# EAGLE library part PWR_SUPV_TPS3890XX (library !GPLIB_ACTIVE)
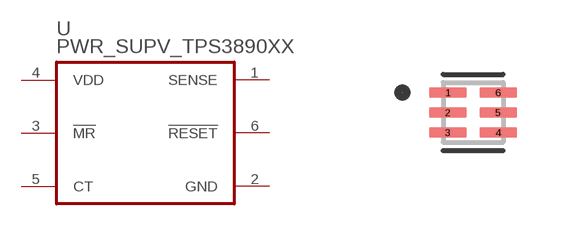
[diagram p52: symbol with the pads of SON50P150X150X80-6N; footprint SON50P150X150X80-6N]

Designator prefix U

## PWR_SUPV_TPS3890XX_TPS389001DSER  [SON50P150X150X80-6N]
1  SENSE  in
2  GND  pwr
3  !MR  in
4  VDD  pwr
5  CT  pas
6  !RESET  out

## Footprint SON50P150X150X80-6N (pad centres in mm)
WSON (6) 1.50mm x 1.50mm
smd 0.94 x 0.27: 1 -0.63,0.5; 2 -0.63,0; 3 -0.63,-0.5; 4 0.63,-0.5; 5 0.63,0; 6 0.63,0.5